# Altium schematic symbol library MCP6024-E_SL.SchLib: 1 symbol
Pins are listed as number, name and electrical type; pins without a type are passive.

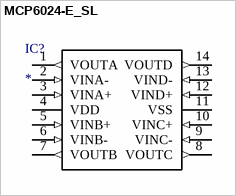
[diagram p0: symbol MCP6024-E_SL]

## MCP6024-E_SL
designator IC?
Integrated Circuit; Manufacturer_Name: Microchip; Manufacturer_Part_Number: MCP6024-E/SL; Description: OP Amp Quad GP R-R I/O 5.5V; Allied_Number: 70414688; Datasheet Link: http://docs-emea.rs-online.com/webdocs/0d05/0900766b80d05ae9.pdf; Height: 1.75mm; Mouser Part Number: 579-MCP6024-E/SL; Mouser Price/Stock: https://www.mouser.com/Search/Refine.aspx?Keyword=579-MCP6024-E%2FSL; RS Part Number: 1460161; RS Price/Stock: http://uk.rs-online.com/web/p/products/1460161; Allied Price/Stock: http://www.alliedelec.com/microchip-technology-inc-mcp6024-e-sl/70414688/
footprint SOIC127P600X175-14N
pins: 1 VOUTA (out), 2 VINA- (in), 3 VINA+ (in), 4 VDD (power), 5 VINB+ (in), 6 VINB- (in), 7 VOUTB (out), 8 VOUTC (out), 9 VINC- (in), 10 VINC+ (in), 11 VSS (power), 12 VIND+ (in), 13 VIND- (in), 14 VOUTD (out)